# Altium schematic symbol library IGBT_with_diode.SchLib: 1 symbol
Pins are listed as number, name and electrical type; pins without a type are passive.

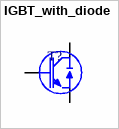
[diagram p0: symbol IGBT_with_diode]

## IGBT_with_diode
designator T?  (value not drawn)
pins: 1 G, 2 C, 3 E